# Altium schematic symbol library bch-lib.SchLib: 132 symbols (part 2 of 2)
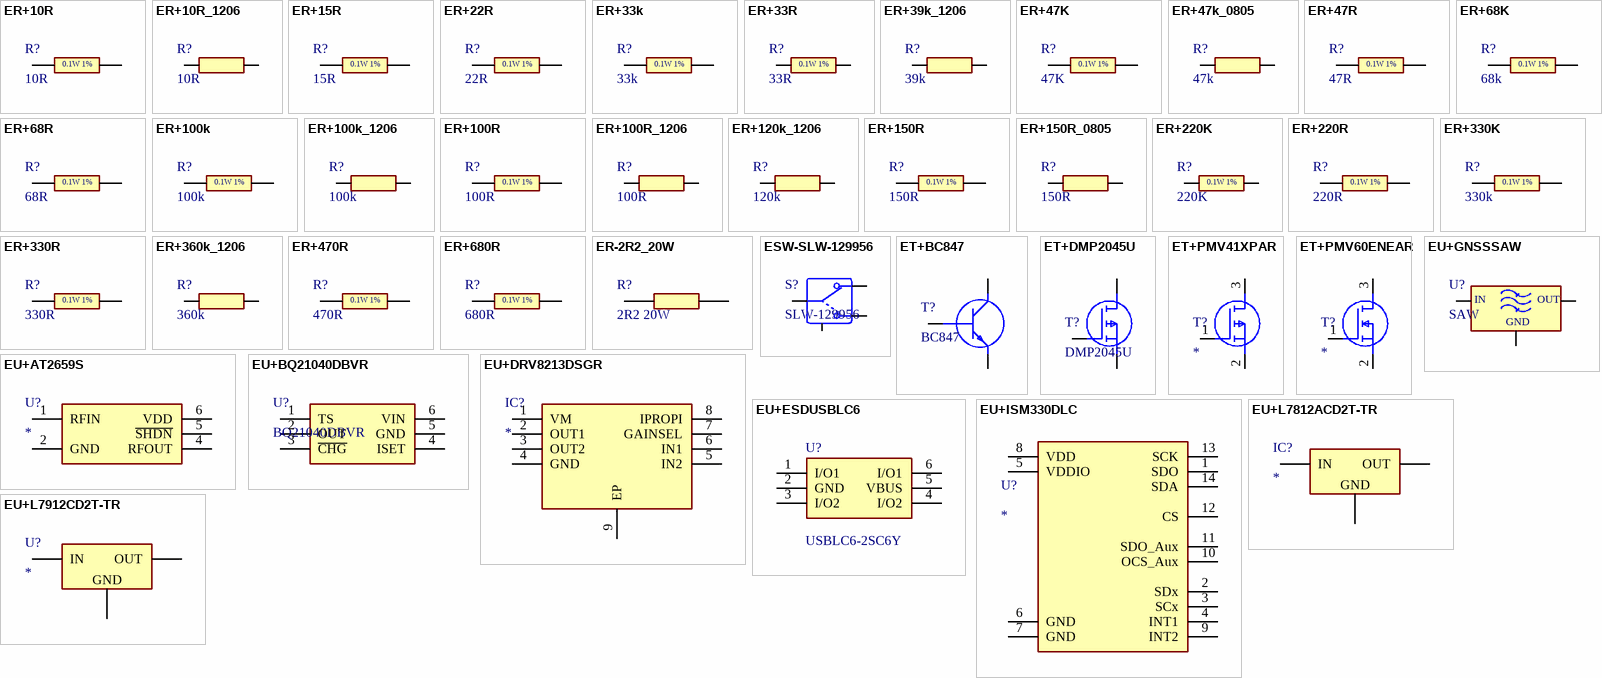
[diagram p4: symbols ER+10R to EU+L7912CD2T-TR]

## ER+150R
designator R?, comment 150R
Resistor 1%, 0.1W; Manufacturer_Name: Vishay; Manufacturer_Part_Number: CRCW0603150RFKEA; Datasheet Link: http://www.vishay.com/docs/20035/dcrcwe3.pdf; Height: 0.5mm; Mouser Part Number: 71-CRCW0603-150-E3; Mouser Price/Stock: https://www.mouser.co.uk/ProductDetail/Vishay-Dale/CRCW0603150RFKEA?qs=Q9r07yXTfg1fLIL8w1gEbA%3D%3D; Arrow Part Number: CRCW0603150RFKEA; Arrow Price/Stock: https://www.arrow.com/en/products/crcw0603150rfkea/vishay
footprint RESC1608X50N
pins: 1, 2
text: 0.1W 1%

## ER+150R_0805
designator R?, comment 150R
SMD 150Ohms 1/8W 150V; Manufacturer_Name: TE Connectivity; Manufacturer_Part_Number: CRG0805F150R; Datasheet Link: https://www.te.com/commerce/DocumentDelivery/DDEController?Action=srchrtrv&DocNm=1773204&DocType=Data%20Sheet&DocLang=English&PartCntxt=1623117-1&DocFormat=pdf; Height: 0.65mm; Mouser Part Number: 279-CRG0805F150R; Mouser Price/Stock: https://www.mouser.co.uk/ProductDetail/TE-Connectivity-Neohm/CRG0805F150R?qs=VHcS2MTj4gaoRKWWOsp%252BeQ%3D%3D; Arrow Part Number: CRG0805F150R; Arrow Price/Stock: https://www.arrow.com/en/products/crg0805f150r/te-connectivity
footprint RESC2012X65N
pins: 1, 2

## ER+220K
designator R?, comment 220K
Thick Film Resistors - SMD 1/8 Watt 220Kohms 1%; Manufacturer_Name: Vishay; Manufacturer_Part_Number: CRCW0603220KFKEA; Datasheet Link: https://www.vishay.com/docs/20035/dcrcwe3.pdf; Height: 0.55mm; Mouser Part Number: 71-CRCW0603-220K-E3; Mouser Price/Stock: https://cz.mouser.com/ProductDetail/Vishay/CRCW0603220KFKEA?qs=pVi9qluBdEGy7pbAV1jqkQ%3D%3D
footprint RESC1608X55N
pins: 1, 2
text: 0.1W 1%

## ER+220R
designator R?, comment 220R
Resistor 1%, 0.1W; Manufacturer_Name: Vishay; Manufacturer_Part_Number: CRCW0603220RFKEA; Datasheet Link: http://www.vishay.com/docs/20035/dcrcwe3.pdf; Height: 0.5mm; Mouser Part Number: 71-CRCW0603-220-E3; Mouser Price/Stock: https://www.mouser.co.uk/ProductDetail/Vishay-Dale/CRCW0603220RFKEA?qs=4POWfzItllJ8AN%2FCTmuBmQ%3D%3D; Arrow Part Number: CRCW0603220RFKEA; Arrow Price/Stock: https://www.arrow.com/en/products/crcw0603220rfkea/vishay?region=nac
footprint RESC1608X50N
pins: 1, 2
text: 0.1W 1%

## ER+330K
designator R?, comment 330k
Resistor 1%, 0.1W; Manufacturer_Name: Vishay; Manufacturer_Part_Number: CRCW0603330KFKEA; Datasheet Link: http://www.vishay.com/docs/20035/dcrcwe3.pdf; Height: 0.5mm; Mouser Part Number: 71-CRCW0603-330K-E3; Mouser Price/Stock: https://www.mouser.co.uk/ProductDetail/Vishay-Dale/CRCW0603330KFKEA?qs=as8n0eYEuf7szNfsGLmT4g%3D%3D; Arrow Part Number: CRCW0603330KFKEA; Arrow Price/Stock: https://www.arrow.com/en/products/crcw0603330kfkea/vishay?region=nac
footprint RESC1608X50N
pins: 1, 2
text: 0.1W 1%

## ER+330R
designator R?, comment 330R
Resistor 1%, 0.1W; Manufacturer_Name: Vishay; Manufacturer_Part_Number: CRCW0603330RFKEA; Datasheet Link: http://www.vishay.com/docs/20035/dcrcwe3.pdf; Height: 0.5mm; Mouser Part Number: 71-CRCW0603-330-E3; Mouser Price/Stock: https://www.mouser.co.uk/ProductDetail/Vishay-Dale/CRCW0603330RFKEA?qs=xLmuQgtoMPNxrOftWKAO4w%3D%3D; Arrow Part Number: CRCW0603330RFKEA; Arrow Price/Stock: https://www.arrow.com/en/products/crcw0603330rfkea/vishay?region=nac
footprint RESC1608X50N
pins: 1, 2
text: 0.1W 1%

## ER+360k_1206
designator R?, comment 360k
Resistor 0.25 W, 1 %; Manufacturer_Name: Vishay; Manufacturer_Part_Number: CRCW1206360KFKEAC; Datasheet Link: http://componentsearchengine.com/Datasheets/1/CRCW1206360KFKEAC.pdf; Height: 0.6mm; Mouser Part Number: 71-CRCW1206360KFKEAC; Mouser Price/Stock: https://www.mouser.com/Search/Refine.aspx?Keyword=71-CRCW1206360KFKEAC
footprint RESC3216X60N
pins: 1, 2

## ER+470R
designator R?, comment 470R
Resistor 1%, 0.1W; Manufacturer_Name: Vishay; Manufacturer_Part_Number: CRCW0603470RFKEA; Datasheet Link: http://www.vishay.com/docs/20035/dcrcwe3.pdf; Height: 0.5mm; Mouser Part Number: 71-CRCW0603-470-E3; Mouser Price/Stock: https://www.mouser.co.uk/ProductDetail/Vishay-Dale/CRCW0603470RFKEA?qs=2LLIXXYaQepTa3IToKeExA%3D%3D; Arrow Part Number: CRCW0603470RFKEA; Arrow Price/Stock: https://www.arrow.com/en/products/crcw0603470rfkea/vishay?region=nac
footprint RESC1608X50N
pins: 1, 2
text: 0.1W 1%

## ER+680R
designator R?, comment 680R
Resistor 1%, 0.1W; Manufacturer_Name: Vishay; Manufacturer_Part_Number: CRCW0603680RFKEA; Datasheet Link: http://www.vishay.com/docs/20035/dcrcwe3.pdf; Height: 0.5mm; Mouser Part Number: 71-CRCW0603-680-E3; Mouser Price/Stock: https://www.mouser.co.uk/ProductDetail/Vishay-Dale/CRCW0603680RFKEA?qs=giVM%252B3aTMKxAYO7jv4GE2Q%3D%3D; Arrow Part Number: CRCW0603680RFKEA; Arrow Price/Stock: https://www.arrow.com/en/products/crcw0603680rfkea/vishay
footprint RESC1608X50N
pins: 1, 2
text: 0.1W 1%

## ER-2R2_20W
designator R?, comment 2R2 20W
footprint R20W
pins: 1, 2

## ESW-SLW-129956
designator S?, comment SLW-129956
Slide Switch, Right Angle, max. 50 VDC, max. 300 mA, ON - ON; Manufacturer_Name: Same Sky; Manufacturer_Part_Number: SLW-129956-4A-RA-N-D; Datasheet Link: https://www.sameskydevices.com/product/resource/slw-129956-4a-ra-n-d.pdf; Height: 6.3mm; Mouser Part Number: 179-SLW1299564ARAND; Mouser Price/Stock: https://www.mouser.co.uk/ProductDetail/Same-Sky/SLW-129956-4A-RA-N-D?qs=IKkN%2F947nfAoCoaoyLYE3A%3D%3D
footprint SLW1299564ARAND; pin to pad 4>4+5
pins: 1 NO, 2 COM, 3 NO, 4 MH1

## ET+BC847
designator T?, comment BC847
Bipolar Transistors - BJT 45 V, 100 mA NPN general-purpose transistors; Manufacturer_Name: Nexperia; Manufacturer_Part_Number: BC847A-QR; Datasheet Link: https://assets.nexperia.com/documents/data-sheet/BC847X-Q_SER.pdf; Height: 1.1mm; Mouser Part Number: 771-BC847A-QR; Mouser Price/Stock: https://www.mouser.co.uk/ProductDetail/Nexperia/BC847A-QR?qs=e8oIoAS2J1SH%2FeVKr0bVKg%3D%3D
footprint SOT95P230X110-3N
pins: 1 B, 2 E, 3 C

## ET+DMP2045U
designator T?, comment DMP2045U
MOSFET (P-Channel) Vds=20 V Id=3.9 A Rdson=42.5 mOhms; Manufacturer_Name: Diodes Incorporated; Manufacturer_Part_Number: DMP2045U-7; Datasheet Link: https://www.diodes.com//assets/Datasheets/DMP2045U.pdf; Height: 1.15mm; Mouser Part Number: 621-DMP2045U-7; Mouser Price/Stock: https://www.mouser.co.uk/ProductDetail/Diodes-Incorporated/DMP2045U-7?qs=rrS6PyfT74erdUwo5CgHTg%3D%3D; Arrow Part Number: DMP2045U-7; Arrow Price/Stock: https://www.arrow.com/en/products/dmp2045u-7/diodes-incorporated?utm_currency=USD&region=nac
footprint SOT96P240X115-3N
pins: 1 G, 2 S, 3 D

## ET+PMV41XPAR
designator T?
MOSFET (P-Channel); Manufacturer_Name: Nexperia; Manufacturer_Part_Number: PMV41XPAR; Datasheet Link: https://assets.nexperia.com/documents/data-sheet/PMV41XPA.pdf; Height: 1.1mm; Mouser Part Number: 771-PMV41XPAR; Mouser Price/Stock: https://www.mouser.co.uk/ProductDetail/Nexperia/PMV41XPAR?qs=3Rah4i%252BhyCEbF0shGjTjhg%3D%3D
footprint SOT95P230X110-3N
pins: 1 G, 2 S, 3 D

## ET+PMV60ENEAR
designator T?
MOSFET (N-Channel); Manufacturer_Name: Nexperia; Manufacturer_Part_Number: PMV60ENEAR; Datasheet Link: https://assets.nexperia.com/documents/data-sheet/PMV60ENEA.pdf; Height: 1.1mm; Mouser Part Number: 771-PMV60ENEAR; Mouser Price/Stock: https://www.mouser.co.uk/ProductDetail/Nexperia/PMV60ENEAR?qs=T3oQrply3y8NXUEWyBPKAA%3D%3D; Arrow Part Number: PMV60ENEAR; Arrow Price/Stock: https://www.arrow.com/en/products/pmv60enear/nexperia?region=nac
footprint SOT95P230X110-3N
pins: 1 G, 2 S, 3 D

## EU+AT2659S
designator U?
1.55GHz~1.615GHz 21.5dB 1.4V~3.6V 0.8dB -14dBm 4.3mA DFN-6(1x1.6) RF Amplifiers RoHS; Manufacturer_Name: Hangzhou ZhongKe Microelectronics; Manufacturer_Part_Number: AT2659S; Datasheet Link: http://lanzhi-tech.com/filedownload/89817; Height: 1.25mm
footprint SOT95P280X125-6N; pin to pad 2>2+3
pins: 1 RFIN, 2 GND, 4 RFOUT, 5 ~{SHDN}, 6 VDD

## EU+BQ21040DBVR
designator U?, comment BQ21040DBVR
Battery Management 1-cell 0.8-A Li-ion and Li-polymer batt A 595-BQ21040DBVT; Manufacturer_Name: Texas Instruments; Datasheet Link: http://www.ti.com/lit/gpn/bq21040; Height: 1.45mm; Manufacturer_Part_Number: BQ21040DBVR; Mouser Part Number: 595-BQ21040DBVR; Mouser Price/Stock: https://www.mouser.co.uk/ProductDetail/Texas-Instruments/BQ21040DBVR?qs=cttFivMKqWyovUuY6Xwwcw%3D%3D; Arrow Part Number: BQ21040DBVR; Arrow Price/Stock: https://www.arrow.com/en/products/bq21040dbvr/texas-instruments?utm_currency=USD&region=nac
footprint SOT95P280X145-6N
pins: 1 TS, 2 OUT, 3 ~{CHG}, 4 ISET, 5 GND (power), 6 VIN

## EU+DRV8213DSGR
designator IC?
Integrated Circuit; Manufacturer_Name: Texas Instruments; Manufacturer_Part_Number: DRV8213DSGR; Datasheet Link: https://www.ti.com/lit/ds/symlink/drv8213.pdf?ts=1703739910534&ref_url=https%253A%252F%252Fwww.ti.com.cn%252Fproduct%252Fcn%252FDRV8213; Height: 0.8mm; Mouser Part Number: 595-DRV8213DSGR; Mouser Price/Stock: https://www.mouser.co.uk/ProductDetail/Texas-Instruments/DRV8213DSGR?qs=HoCaDK9Nz5fr9x8VVVVBBg%3D%3D; Arrow Part Number: DRV8213DSGR; Arrow Price/Stock: https://www.arrow.com/en/products/drv8213dsgr/texas-instruments?region=nac
footprint SON50P200X200X80-9N
pins: 1 VM, 2 OUT1, 3 OUT2, 4 GND, 5 IN2, 6 IN1, 7 GAINSEL, 8 IPROPI, 9 EP

## EU+ESDUSBLC6
designator U?, comment USBLC6-2SC6Y
Low Cap. ESD Protection Auto SOT-23-6 STMicroelectronics USBLC6-2SC6Y, Dual Uni-Directional TVS Diode Array, 6-Pin SOT-23; Geometry.Height: 1.45mm; Manufacturer_Name: STMicroelectronics; Manufacturer_Part_Number: USBLC6-2SC6Y; Mouser Part Number: 511-USBLC6-2SC6Y; Mouser Price/Stock: https://www.mouser.co.uk/ProductDetail/STMicroelectronics/USBLC6-2SC6Y?qs=gNDSiZmRJS%2FOgDexvXkdow%3D%3D; Arrow Part Number: USBLC6-2SC6Y; Arrow Price/Stock: https://www.arrow.com/en/products/usblc6-2sc6y/stmicroelectronics.html?utm_currency=USD&region=nac; Datasheet Link: https://www.st.com/resource/en/datasheet/usblc6-2sc6y.pdf
footprint SOT95P280X145-6N
pins: 1 I/O1, 2 GND, 3 I/O2, 4 I/O2, 5 VBUS, 6 I/O1

## EU+GNSSSAW
designator U?, comment SAW
Signal Conditioning - 40 C to + 85 C 1.5824 GHz 1 dB 2 MHz, 4.092 MHz, 8.34 MHz 50 Ohms GNSS; Manufacturer_Name: RF360; Manufacturer_Part_Number: B39162B4327P810; Datasheet Link: https://mm.digikey.com/Volume0/opasdata/d220001/medias/docus/992/B39162B4327P810_Rev2.2.pdf; Height: 0.45mm; Mouser Part Number: 871-B39162B4327P810; Mouser Price/Stock: https://www.mouser.co.uk/ProductDetail/RF360/B39162B4327P810?qs=lGUynpphgXxwtn5A8O%2FIyg%3D%3D; Arrow Part Number: B39162B4327P810; Arrow Price/Stock: https://www.arrow.com/en/products/b39162b4327p810/qualcomm-rf360-a-qualcomm-tdk-joint-venture?region=nac
footprint B39162B4327P810; pin to pad 2>2+3+5
pins: 1 IN, 2, 4 OUT
text: GND

## EU+ISM330DLC
designator U?
ISM330DLCTR iNEMO 6-axis IMU: 3-axis accelerometer and 3-axis gyroscope with digital output; Manufacturer_Name: STMicroelectronics; Datasheet Link: https://www.st.com/resource/en/datasheet/ism330dlc.pdf; Manufacturer_Part_Number: ISM330DLCTR; Mouser Part Number: 511-ISM330DLCTR; Mouser Price/Stock: https://www.mouser.co.uk/ProductDetail/STMicroelectronics/ISM330DLCTR?qs=HXFqYaX1Q2xJsRh9qTmUlw%3D%3D; Arrow Part Number: ISM330DLCTR; Arrow Price/Stock: https://www.arrow.com/en/products/ism330dlctr/stmicroelectronics.html?utm_currency=USD&region=nac
footprint LGA-14_1
pins: 1 SDO, 2 SDx, 3 SCx, 4 INT1, 5 VDDIO, 6 GND, 7 GND, 8 VDD, 9 INT2, 10 OCS_Aux, 11 SDO_Aux, 12 CS, 13 SCK, 14 SDA

## EU+L7812ACD2T-TR
designator IC?
Linear Voltage Regulators 12V 1.0A Positive; Manufacturer_Name: STMicroelectronics; Manufacturer_Part_Number: L7812ACD2T-TR; Datasheet Link: http://www.st.com/web/en/resource/technical/document/datasheet/CD00000444.pdf; Height: 4.6mm; Mouser Part Number: 511-L7812ACD2T-TR; Mouser Price/Stock: https://www.mouser.co.uk/ProductDetail/STMicroelectronics/L7812ACD2T-TR?qs=llfGyK1OjE2obYsTUvUdDw%3D%3D; Arrow Part Number: L7812ACD2T-TR; Arrow Price/Stock: https://www.arrow.com/en/products/l7812acd2t-tr/stmicroelectronics?region=nac
footprint L7905CD2TTR
pins: 1 GND, 2 OUT, 3 IN

## EU+L7912CD2T-TR
designator U?
Linear Voltage Regulators 12V 1.5A Negative; Manufacturer_Name: STMicroelectronics; Manufacturer_Part_Number: L7912CD2T-TR; Datasheet Link: http://www.st.com/web/en/resource/technical/document/datasheet/CD00000450.pdf; Height: 4.6mm; Mouser Part Number: 511-L7912CD2T-TR; Mouser Price/Stock: https://www.mouser.co.uk/ProductDetail/STMicroelectronics/L7912CD2T-TR?qs=3sbPgdekz232r2AmOaAD%252Bg%3D%3D; Arrow Part Number: L7912CD2T-TR; Arrow Price/Stock: https://www.arrow.com/en/products/l7912cd2t-tr/stmicroelectronics?region=nac
footprint L7905CD2TTR
pins: 1 GND, 2 OUT, 3 IN

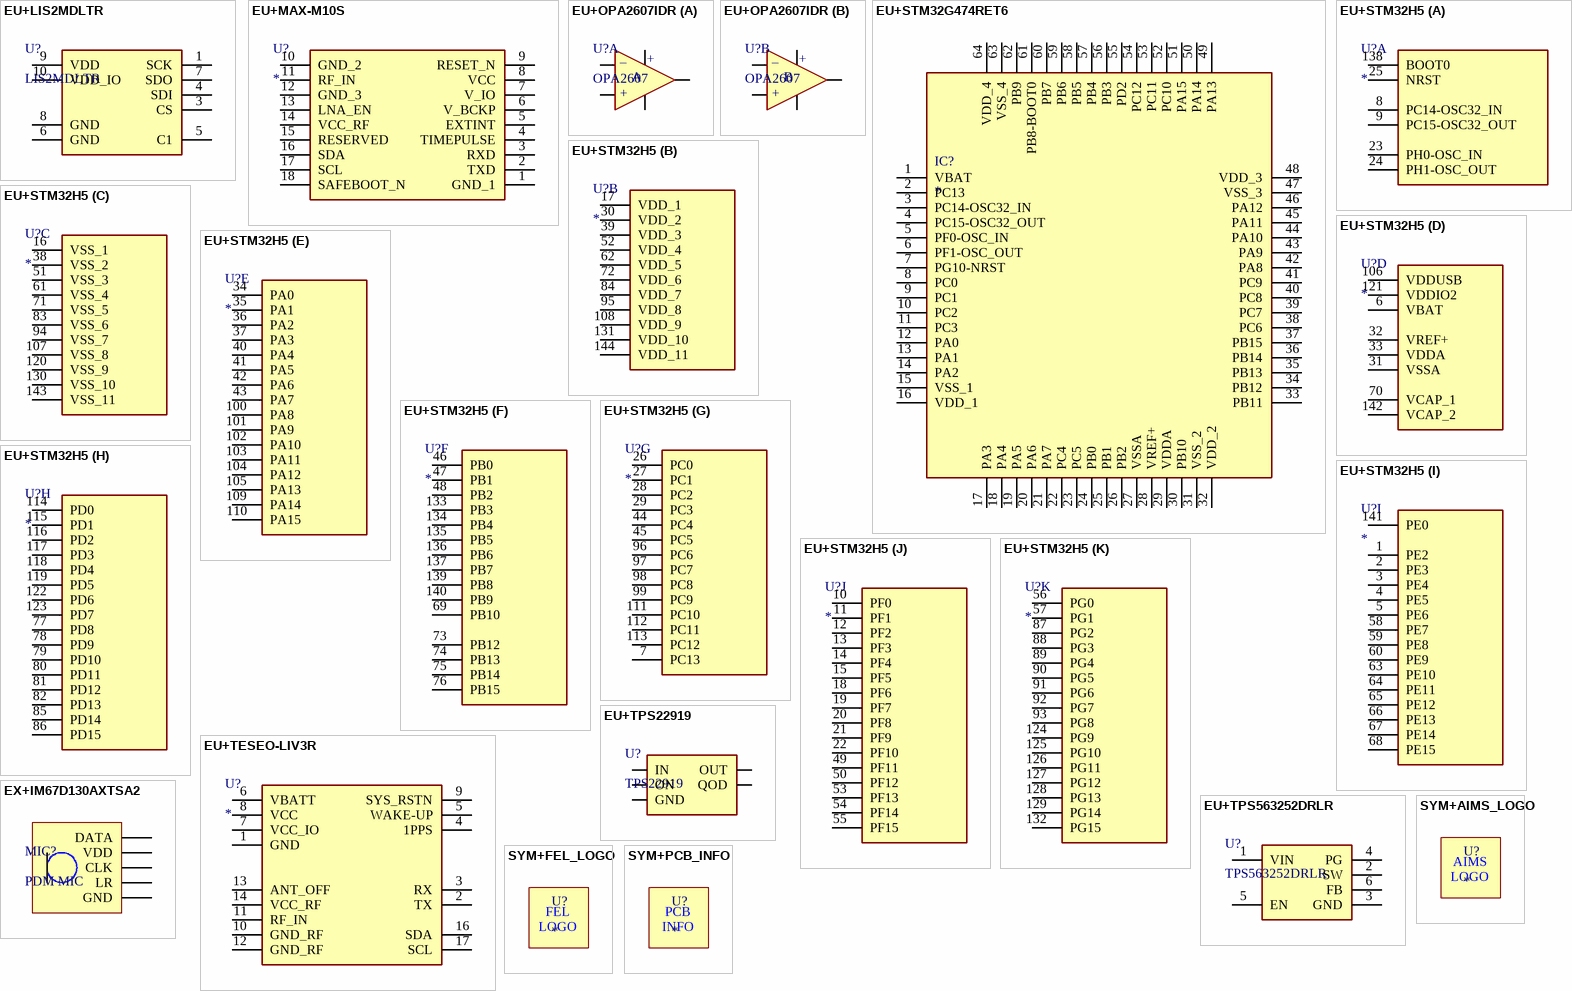
[diagram p3: symbols EU+LIS2MDLTR to SYM+PCB_INFO]

## EU+LIS2MDLTR
designator U?, comment LIS2MDLTR
Magnetic Sensors Digital output magnetic sensor: ultralow-power, high-performance 3-axis magnetom; Manufacturer_Name: STMicroelectronics; Datasheet Link: https://www.st.com/resource/en/datasheet/lis2mdl.pdf; Manufacturer_Part_Number: LIS2MDLTR; Mouser Part Number: 511-LIS2MDLTR; Mouser Price/Stock: https://www.mouser.co.uk/ProductDetail/STMicroelectronics/LIS2MDLTR?qs=5aG0NVq1C4wS0n6b5NiBNQ%3D%3D; Arrow Part Number: LIS2MDLTR; Arrow Price/Stock: https://www.arrow.com/en/products/lis2mdltr/stmicroelectronics?utm_currency=USD&region=nac
footprint LGA-12
pins: 1 SCK, 3 CS, 4 SDI, 5 C1, 6 GND, 7 SDO, 8 GND, 9 VDD, 10 VDD_IO

## EU+MAX-M10S
designator U?
GNSS / GPS Modules u-blox M10 GNSS module ROM, TCXO, LNA, SAW LCC, 9.7x10 mm; Manufacturer_Part_Number: MAX-M10S-00B; Datasheet Link: https://content.u-blox.com/sites/default/files/MAX-M10S_IntegrationManual_UBX-20053088.pdf; Height: 2.7mm; Manufacturer_Name: u-blox; Mouser Part Number: 377-MAX-M10S-00B; Mouser Price/Stock: https://www.mouser.co.uk/ProductDetail/u-blox/MAX-M10S-00B?qs=A6eO%252BMLsxmT0PfQYPb7LLQ%3D%3D; Arrow Part Number: MAX-M10S-00B; Arrow Price/Stock: https://www.arrow.com/en/products/max-m10s-00b/u-blox?utm_currency=USD&region=nac
footprint MAXM10S00B (Footprint not found)
pins: 1 GND_1, 2 TXD, 3 RXD, 4 TIMEPULSE, 5 EXTINT, 6 V_BCKP, 7 V_IO, 8 VCC, 9 RESET_N, 10 GND_2, 11 RF_IN, 12 GND_3, 13 LNA_EN, 14 VCC_RF, 15 RESERVED, 16 SDA, 17 SCL, 18 SAFEBOOT_N

## EU+OPA2607IDR
designator U?, comment OPA2607
Operational Amplifiers - Op Amps Dual-channel low-po wer precision 50-M; Manufacturer_Name: Texas Instruments; Manufacturer_Part_Number: OPA2607IDR; Datasheet Link: https://www.ti.com/lit/ds/symlink/opa2607.pdf; Height: 1.75mm; Mouser Part Number: 595-OPA2607IDR; Mouser Price/Stock: https://www.mouser.co.uk/ProductDetail/Texas-Instruments/OPA2607IDR?qs=zW32dvEIR3ss%2FpWvIqcTXw%3D%3D; Arrow Part Number: OPA2607IDR; Arrow Price/Stock: https://www.arrow.com/en/products/opa2607idr/texas-instruments
footprint SOIC127P600X175-8N
part A pins: 1 OUT1, 2 IN1-, 3 IN1+, 4 VS-, 8 VS+
part B pins: 4 VS-, 5 IN2+, 6 IN2-, 7 OUT2, 8 VS+
part A text: +; –; A
part B text: +; –; B

## EU+STM32G474RET6
designator IC?
Integrated Circuit; Manufacturer_Name: STMicroelectronics; Manufacturer_Part_Number: STM32G474RET6; Datasheet Link: https://www.st.com/resource/en/datasheet/stm32g474re.pdf; Height: 1.6mm; Mouser Part Number: 511-STM32G474RET6; Mouser Price/Stock: https://www.mouser.co.uk/ProductDetail/STMicroelectronics/STM32G474RET6?qs=PzGy0jfpSMvUBs7PMTDqlg%3D%3D; Arrow Part Number: STM32G474RET6; Arrow Price/Stock: https://www.arrow.com/en/products/stm32g474ret6/stmicroelectronics?region=nac
footprint QFP50P1200X1200X160-64N
pins: 1 VBAT, 2 PC13, 3 PC14-OSC32_IN, 4 PC15-OSC32_OUT, 5 PF0-OSC_IN, 6 PF1-OSC_OUT, 7 PG10-NRST, 8 PC0, 9 PC1, 10 PC2, 11 PC3, 12 PA0, 13 PA1, 14 PA2, 15 VSS_1, 16 VDD_1, 17 PA3, 18 PA4, 19 PA5, 20 PA6, 21 PA7, 22 PC4, 23 PC5, 24 PB0, 25 PB1, 26 PB2, 27 VSSA, 28 VREF+, 29 VDDA, 30 PB10, 31 VSS_2, 32 VDD_2, 33 PB11, 34 PB12, 35 PB13, 36 PB14, 37 PB15, 38 PC6, 39 PC7, 40 PC8, 41 PC9, 42 PA8, 43 PA9, 44 PA10, 45 PA11, 46 PA12, 47 VSS_3, 48 VDD_3, 49 PA13, 50 PA14, 51 PA15, 52 PC10, 53 PC11, 54 PC12, 55 PD2, 56 PB3, 57 PB4, 58 PB5, 59 PB6, 60 PB7, 61 PB8-BOOT0, 62 PB9, 63 VSS_4, 64 VDD_4

## EU+STM32H5
designator U?
STM32H563ZIT6; Manufacturer_Name: STMicroelectronics; Datasheet Link: https://www.st.com/resource/en/datasheet/stm32h562ag.pdf; Height: 1.6mm; Manufacturer_Part_Number: STM32H563ZIT6; Mouser Part Number: 511-STM32H563ZIT6; Mouser Price/Stock: https://www.mouser.co.uk/ProductDetail/STMicroelectronics/STM32H563ZIT6?qs=amGC7iS6iy9kqsV9OIos2w%3D%3D; Arrow Part Number: STM32H563ZIT6; Arrow Price/Stock: https://www.arrow.com/en/products/stm32h563zit6/stmicroelectronics?utm_currency=USD&region=nac
footprint QFP50P2200X2200X160-144N
part A pins: 8 PC14-OSC32_IN, 9 PC15-OSC32_OUT, 23 PH0-OSC_IN, 24 PH1-OSC_OUT, 25 NRST, 138 BOOT0
part B pins: 17 VDD_1, 30 VDD_2, 39 VDD_3, 52 VDD_4, 62 VDD_5, 72 VDD_6, 84 VDD_7, 95 VDD_8, 108 VDD_9, 131 VDD_10, 144 VDD_11
part C pins: 16 VSS_1, 38 VSS_2, 51 VSS_3, 61 VSS_4, 71 VSS_5, 83 VSS_6, 94 VSS_7, 107 VSS_8, 120 VSS_9, 130 VSS_10, 143 VSS_11
part D pins: 6 VBAT, 31 VSSA, 32 VREF+, 33 VDDA, 70 VCAP_1, 106 VDDUSB, 121 VDDIO2, 142 VCAP_2
part E pins: 34 PA0, 35 PA1, 36 PA2, 37 PA3, 40 PA4, 41 PA5, 42 PA6, 43 PA7, 100 PA8, 101 PA9, 102 PA10, 103 PA11, 104 PA12, 105 PA13, 109 PA14, 110 PA15
part F pins: 46 PB0, 47 PB1, 48 PB2, 69 PB10, 73 PB12, 74 PB13, 75 PB14, 76 PB15, 133 PB3, 134 PB4, 135 PB5, 136 PB6, 137 PB7, 139 PB8, 140 PB9
part G pins: 7 PC13, 26 PC0, 27 PC1, 28 PC2, 29 PC3, 44 PC4, 45 PC5, 96 PC6, 97 PC7, 98 PC8, 99 PC9, 111 PC10, 112 PC11, 113 PC12
part H pins: 77 PD8, 78 PD9, 79 PD10, 80 PD11, 81 PD12, 82 PD13, 85 PD14, 86 PD15, 114 PD0, 115 PD1, 116 PD2, 117 PD3, 118 PD4, 119 PD5, 122 PD6, 123 PD7
part I pins: 1 PE2, 2 PE3, 3 PE4, 4 PE5, 5 PE6, 58 PE7, 59 PE8, 60 PE9, 63 PE10, 64 PE11, 65 PE12, 66 PE13, 67 PE14, 68 PE15, 141 PE0
part J pins: 10 PF0, 11 PF1, 12 PF2, 13 PF3, 14 PF4, 15 PF5, 18 PF6, 19 PF7, 20 PF8, 21 PF9, 22 PF10, 49 PF11, 50 PF12, 53 PF13, 54 PF14, 55 PF15
part K pins: 56 PG0, 57 PG1, 87 PG2, 88 PG3, 89 PG4, 90 PG5, 91 PG6, 92 PG7, 93 PG8, 124 PG9, 125 PG10, 126 PG11, 127 PG12, 128 PG13, 129 PG14, 132 PG15

## EU+TESEO-LIV3R
designator U?
Tiny ROM GNSS module; Manufacturer_Name: STMicroelectronics; Manufacturer_Part_Number: TESEO-LIV3R; Datasheet Link: https://www.st.com/resource/en/datasheet/teseo-liv3r.pdf; Height: 2.3mm; Mouser Part Number: 511-TESEO-LIV3R; Mouser Price/Stock: https://www.mouser.co.uk/ProductDetail/STMicroelectronics/TESEO-LIV3R?qs=ZSypp649SOXG7EmhCFcBlw%3D%3D; Arrow Part Number: TESEO-LIV3R; Arrow Price/Stock: https://www.arrow.com/en/products/teseo-liv3r/stmicroelectronics?utm_currency=USD&region=nac
footprint TESEOLIV3R
pins: 1 GND, 2 TX, 3 RX, 4 1PPS, 5 WAKE-UP, 6 VBATT, 7 VCC_IO, 8 VCC, 9 SYS_RSTN, 10 GND_RF, 11 RF_IN, 12 GND_RF, 13 ANT_OFF, 14 VCC_RF, 16 SDA, 17 SCL

## EU+TPS22919
designator U?, comment TPS22919
Power Switch ICs - Power Distribution 1-ch 5.5V 1.5A 90 mOhm self-protected AE; Manufacturer_Name: Texas Instruments; Manufacturer_Part_Number: TPS22919QDCKRQ1; Datasheet Link: https://www.ti.com/lit/gpn/tps22919-q1; Height: 1.1mm; Mouser Part Number: 595-TPS22919QDCKRQ1; Mouser Price/Stock: https://cz.mouser.com/ProductDetail/Texas-Instruments/TPS22919QDCKRQ1?qs=sGAEpiMZZMvjbjwkTuU2aX%252BB0PF2SxcjkwPe0jmTNxcgLPqTFcsPcA%3D%3D
footprint SOT65P210X110-6N
pins: 1 IN, 2 GND, 3 ON, 5 QOD, 6 OUT

## EU+TPS563252DRLR
designator U?, comment TPS563252DRLR
Switching Voltage Regulators 3-V to 17-V input vo ltage 3-A 1.2-Mhz; Manufacturer_Name: Texas Instruments; Datasheet Link: https://www.ti.com/lit/ds/symlink/tps563252.pdf?ts=1715244064437&ref_url=https%253A%252F%252Fwww.mouser.in%252F; Height: 0.6mm; Manufacturer_Part_Number: TPS563252DRLR; Mouser Part Number: 595-TPS563252DRLR; Mouser Price/Stock: https://www.mouser.co.uk/ProductDetail/Texas-Instruments/TPS563252DRLR?qs=ulEaXIWI0c%252BIcG7y3AlP5A%3D%3D; Arrow Part Number: TPS563252DRLR; Arrow Price/Stock: https://www.arrow.com/en/products/tps563252drlr/texas-instruments?utm_currency=USD&region=nac
footprint SOTFL50P160X60-6N
pins: 1 VIN, 2 SW, 3 GND, 4 PG, 5 EN, 6 FB

## EX+IM67D130AXTSA2
designator MIC?, comment PDM MIC
MEMS Microphones MIC DBP DIGITAL
footprint LLGA-5-4X3
pins: 1 CLK, 2 LR, 3 DATA, 4 VDD, 5 GND

## SYM+AIMS_LOGO
designator U?
footprint AIMS_LOGO
text: AIMS / LOGO

## SYM+FEL_LOGO
designator U?
footprint FEL_LOGO_BIG
footprint FEL_LOGO_MED
text: FEL / LOGO

## SYM+PCB_INFO
designator U?
footprint PCB_INFO
text: PCB / INFO